# EAGLE library part STM32F103 (library Supernode-MCU)
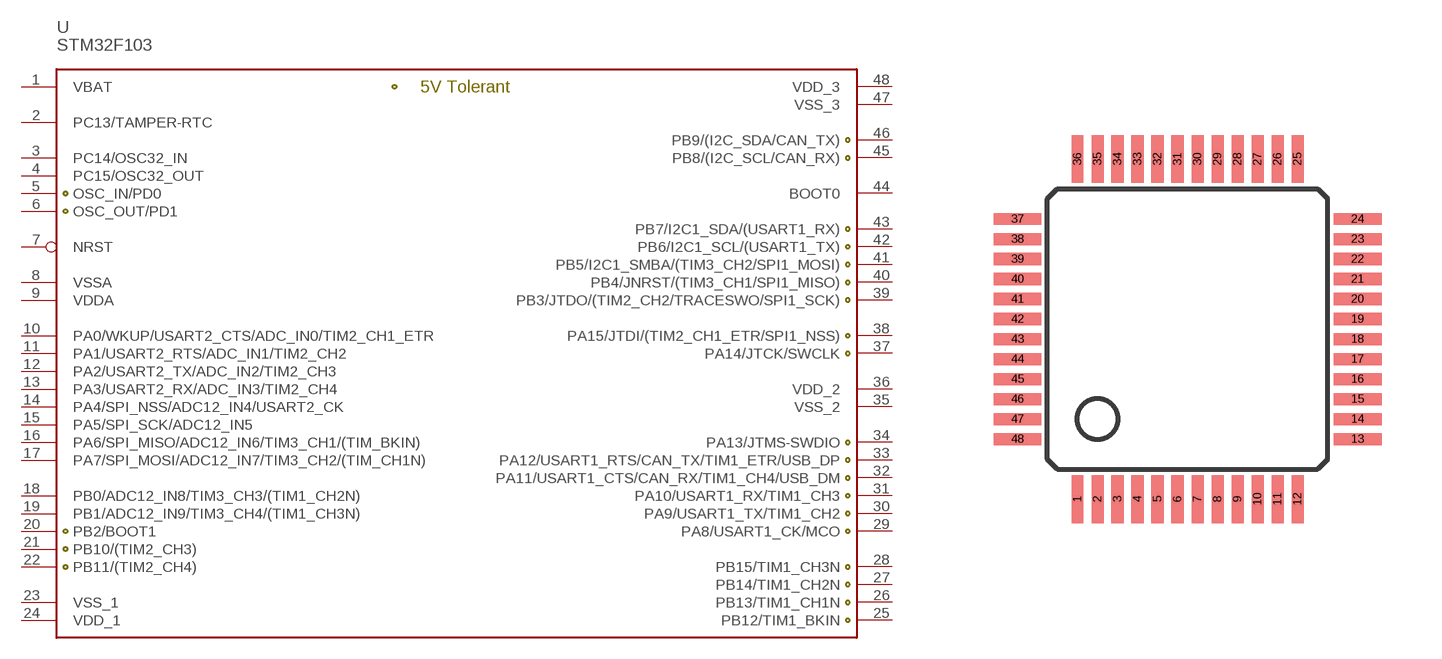
[diagram p3: symbol with the pads of LQFP48; footprint LQFP48]

Designator prefix U

## STM32F103  [LQFP48]
1  VBAT  pwr
2  PC13/TAMPER-RTC
3  PC14/OSC32_IN
4  PC15/OSC32_OUT
5  OSC_IN/PD0
6  OSC_OUT/PD1
7  NRST
8  VSSA  pwr
9  VDDA  pwr
10  PA0/WKUP/USART2_CTS/ADC_IN0/TIM2_CH1_ETR
11  PA1/USART2_RTS/ADC_IN1/TIM2_CH2
12  PA2/USART2_TX/ADC_IN2/TIM2_CH3
13  PA3/USART2_RX/ADC_IN3/TIM2_CH4
14  PA4/SPI_NSS/ADC12_IN4/USART2_CK
15  PA5/SPI_SCK/ADC12_IN5
16  PA6/SPI_MISO/ADC12_IN6/TIM3_CH1/(TIM_BKIN)
17  PA7/SPI_MOSI/ADC12_IN7/TIM3_CH2/(TIM_CH1N)
18  PB0/ADC12_IN8/TIM3_CH3/(TIM1_CH2N)
19  PB1/ADC12_IN9/TIM3_CH4/(TIM1_CH3N)
20  PB2/BOOT1
21  PB10/(TIM2_CH3)
22  PB11/(TIM2_CH4)
23  VSS_1  pwr
24  VDD_1  pwr
25  PB12/TIM1_BKIN
26  PB13/TIM1_CH1N
27  PB14/TIM1_CH2N
28  PB15/TIM1_CH3N
29  PA8/USART1_CK/MCO
30  PA9/USART1_TX/TIM1_CH2
31  PA10/USART1_RX/TIM1_CH3
32  PA11/USART1_CTS/CAN_RX/TIM1_CH4/USB_DM
33  PA12/USART1_RTS/CAN_TX/TIM1_ETR/USB_DP
34  PA13/JTMS-SWDIO
35  VSS_2  pwr
36  VDD_2  pwr
37  PA14/JTCK/SWCLK
38  PA15/JTDI/(TIM2_CH1_ETR/SPI1_NSS)
39  PB3/JTDO/(TIM2_CH2/TRACESWO/SPI1_SCK)
40  PB4/JNRST/(TIM3_CH1/SPI1_MISO)
41  PB5/I2C1_SMBA/(TIM3_CH2/SPI1_MOSI)
42  PB6/I2C1_SCL/(USART1_TX)
43  PB7/I2C1_SDA/(USART1_RX)
44  BOOT0  in
45  PB8/(I2C_SCL/CAN_RX)
46  PB9/(I2C_SDA/CAN_TX)
47  VSS_3  pwr
48  VDD_3  pwr

## Footprint LQFP48 (pad centres in mm)
smd 0.3 x 1.2: 1 -2.75,-4.25; 2 -2.25,-4.25; 3 -1.75,-4.25; 4 -1.25,-4.25; 5 -0.75,-4.25; 6 -0.25,-4.25; 7 0.25,-4.25; 8 0.75,-4.25; 9 1.25,-4.25; 10 1.75,-4.25; 11 2.25,-4.25; 12 2.75,-4.25; 25 2.75,4.25; 26 2.25,4.25; 27 1.75,4.25; 28 1.25,4.25; 29 0.75,4.25; 30 0.25,4.25; 31 -0.25,4.25; 32 -0.75,4.25; 33 -1.25,4.25; 34 -1.75,4.25; 35 -2.25,4.25; 36 -2.75,4.25
smd 1.2 x 0.3: 13 4.25,-2.75; 14 4.25,-2.25; 15 4.25,-1.75; 16 4.25,-1.25; 17 4.25,-0.75; 18 4.25,-0.25; 19 4.25,0.25; 20 4.25,0.75; 21 4.25,1.25; 22 4.25,1.75; 23 4.25,2.25; 24 4.25,2.75; 37 -4.25,2.75; 38 -4.25,2.25; 39 -4.25,1.75; 40 -4.25,1.25; 41 -4.25,0.75; 42 -4.25,0.25; 43 -4.25,-0.25; 44 -4.25,-0.75; 45 -4.25,-1.25; 46 -4.25,-1.75; 47 -4.25,-2.25; 48 -4.25,-2.75